# EAGLE library part 4606X-101 (library RS-parts)
Bournes 5 resistor bus
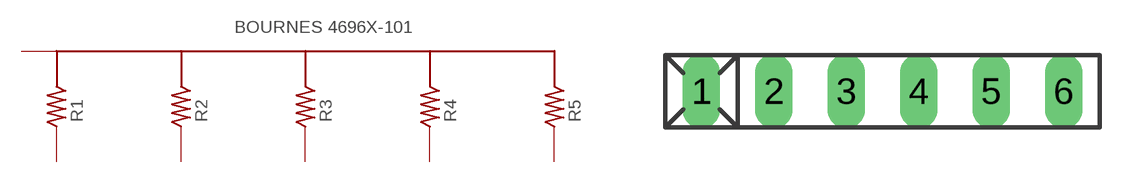
[diagram p3: symbol with the pads of RN-6; footprint RN-6]

Designator prefix -

## 4606X-101  [RN-6]
1  REF
2  R1
3  R2
4  R3
5  R4
6  R5

## Footprint RN-6 (pad centres in mm)
RESISTOR NETWORK
drill 0.813 long: 1 -6.35,0; 2 -3.81,0; 3 -1.27,0; 4 1.27,0; 5 3.81,0; 6 6.35,0